# Altium schematic symbol library SensorBoard.SchLib: 20 symbols
Pins are listed as number, name and electrical type; pins without a type are passive.

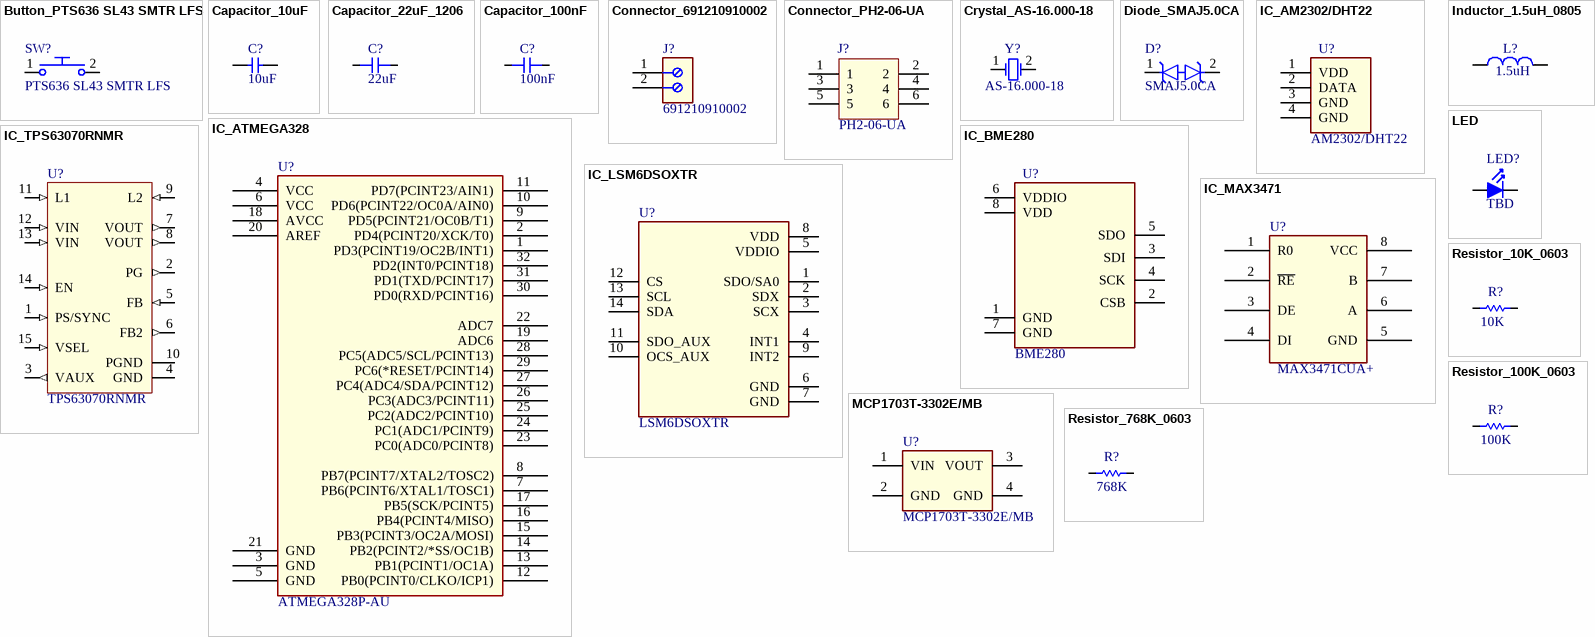
[diagram p0: symbols Button_PTS636 SL43 SMTR LFS to Resistor_768K_0603]

## Button_PTS636 SL43 SMTR LFS
designator SW?, comment PTS636 SL43 SMTR LFS
9.2V Clamp 43.5A Ipp Tvs Diode Surface Mount DO-214AC (SMA); MFR: C&K; Datasheet: https://www.digikey.ro/en/products/detail/c-k/PTS636-SL43-SMTR-LFS/10071722; MFR PN: PTS636 SL43 SMTR LFS; Supplier: Digi Key; Supplier PN: CKN12309-1-ND
footprint SMT Button (Button)
pins: 1, 2

## Capacitor_10uF
designator C?, comment 10uF
CAP CER 10uF 20% 25V X5R 0603; MFR: TDK; MFR PN: C1608X5R1E106M080AC; Supplier: Mouser; Supplier PN: 810-C1608X5R1E106M; Datasheet: https://eu.mouser.com/ProductDetail/TDK/C1608X5R1E106M080AC?qs=dfay7wIA1uGdHfZTkqsICA%3D%3D
footprint CASE0603
pins: 1, 2

## Capacitor_22uF_1206
designator C?, comment 22uF
CAP CER 22uF 20% 35V X7R 1206; MFR: TDK; MFR PN: C3216X5R1V226M160AC; Supplier: Mouser; Supplier PN: 810-C3216X5R1V226M; Datasheet: https://eu.mouser.com/ProductDetail/TDK/C3216X5R1V226M160AC?qs=NRhsANhppD8TwN31eZ1xGQ%3D%3D
footprint CASE1206 (Resistor CASE 1206)
pins: 1, 2

## Capacitor_100nF
designator C?, comment 100nF
CAP CER 100nF 5% 25V X7R 0603; MFR: KEMET; MFR PN: C0603C104J3RAC; Supplier: Mouser; Supplier PN: 80-C0603C104J3RAC; Datasheet: https://eu.mouser.com/ProductDetail/KEMET/C0603C104J3RAC?qs=zlI8QACJnq%252BcGF637t1xBQ%3D%3D
footprint CASE0603
pins: 1, 2

## Connector_691210910002
designator J?, comment 691210910002
TERM BLOCK 2P HORIZON 2.54MM PCB; MFR: Wurth; Datasheet: https://www.digikey.ro/en/products/detail/w%C3%BCrth-elektronik/691210910002/10668428?s=N4IgTCBcDaIGwE4CMYkAZlqxAugXyA; MFR PN: 691210910002; Supplier PN: 732-691210910002-ND; Supplier: Digi Key
footprint 691210910002 (2,54mm - modular - green - Horizontal wire entry - Cage clamp - 0,8mm2 wires - 02p)
pins: 1, 2

## Connector_PH2-06-UA
designator J?, comment PH2-06-UA
Connector Header Through Hole 6 position 0.100" (2.54mm); MFR: Adam Tech; MFR PN: PH2-06-UA; Supplier: Digi Key; Supplier PN: 2057-PH2-06-UA-ND; Datasheet: https://www.digikey.ro/en/products/detail/adam-tech/PH2-06-UA/9830396
footprint Header_2x3_2.54_Male
pins: 1, 2, 3, 4, 5, 6

## Crystal_AS-16.000-18
designator Y?, comment AS-16.000-18
16 MHz ±30ppm Crystal 18pF 40 Ohms HC-49/US; MFR: Raltron Electronics; MFR PN: AS-16.000-18; Datasheet: https://www.digikey.ro/en/products/detail/raltron-electronics/AS-16-000-18/10271769; Supplier PN: 2151-AS-16.000-18-ND; Supplier: Digi Key
footprint HC-49/US (Crystal, Thru-Hole; 2 Leads)
pins: 1 OSC1, 2 OSC2

## Diode_SMAJ5.0CA
designator D?, comment SMAJ5.0CA
9.2V Clamp 43.5A Ipp Tvs Diode Surface Mount DO-214AC (SMA); MFR: Good-Ark Semiconductor; Datasheet: https://www.digikey.ro/en/products/detail/good-ark-semiconductor/SMAJ5-0CA/18649098; MFR PN: SMAJ5.0CA; Supplier: Digi Key; Supplier PN: 4786-SMAJ5.0CACT-ND
footprint SMA (Resistor CASE 1206)
pins: 1, 2

## IC_AM2302/DHT22
designator U?, comment AM2302/DHT22
DIGITAL HUMIDITY, PRESSURE AND TEMPERATURE SENSOR; Datasheet: N/A; MFR: N/A; MFR PN: AM2302/DHT22; Supplier: N/A; Supplier PN: AM2302/DHT22
footprint AM2302_TEMP_HUMID_SENSOR
pins: 1 VDD (power), 2 DATA (power), 3 GND (power), 4 GND (power)

## IC_ATMEGA328
designator U?, comment ATMEGA328P-AU
AVR AVR® ATmega Microcontroller IC 8-Bit 20MHz 32KB (16K x 16) FLASH 32-TQFP (7x7); MFR PN: Microchip; MFR: ATMEGA328P-AU; Supplier: Digi Key; Supplier PN: ATMEGA328P-AU-ND; Datasheet: https://www.digikey.com/en/products/detail/microchip-technology/ATMEGA328P-AU/1832260
footprint TQFP-32 (Footprint not found)
pins: 1 PD3(PCINT19/OC2B/INT1), 2 PD4(PCINT20/XCK/T0), 3 GND, 4 VCC, 5 GND, 6 VCC, 7 PB6(PCINT6/XTAL1/TOSC1), 8 PB7(PCINT7/XTAL2/TOSC2), 9 PD5(PCINT21/OC0B/T1), 10 PD6(PCINT22/OC0A/AIN0), 11 PD7(PCINT23/AIN1), 12 PB0(PCINT0/CLKO/ICP1), 13 PB1(PCINT1/OC1A), 14 PB2(PCINT2/*SS/OC1B), 15 PB3(PCINT3/OC2A/MOSI), 16 PB4(PCINT4/MISO), 17 PB5(SCK/PCINT5), 18 AVCC, 19 ADC6, 20 AREF, 21 GND, 22 ADC7, 23 PC0(ADC0/PCINT8), 24 PC1(ADC1/PCINT9), 25 PC2(ADC2/PCINT10), 26 PC3(ADC3/PCINT11), 27 PC4(ADC4/SDA/PCINT12), 28 PC5(ADC5/SCL/PCINT13), 29 PC6(*RESET/PCINT14), 30 PD0(RXD/PCINT16), 31 PD1(TXD/PCINT17), 32 PD2(INT0/PCINT18)

## IC_BME280
designator U?, comment BME280
DIGITAL HUMIDITY, PRESSURE AND TEMPERATURE SENSOR; MFR: Bosch; Datasheet: https://www.digikey.ro/en/products/detail/bosch-sensortec/BME280/6136306; MFR PN: BME280; Supplier: Digi Key; Supplier PN: 828-1063-1-ND
footprint VFLGA-8 (Sensor)
pins: 1 GND (power), 2 CSB, 3 SDI, 4 SCK, 5 SDO, 6 VDDIO (power), 7 GND (power), 8 VDD (power)

## IC_LSM6DSOXTR
designator U?, comment LSM6DSOXTR
Accelerometer, Gyroscope, 6 Axis Sensor I²C, SPI Output; MFR: STMicroelectronics; Supplier: Digi Key; Supplier PN: 497-18367-1-ND; Datasheet: https://www.digikey.gr/en/products/detail/stmicroelectronics/LSM6DSOXTR/9841882?s=N4IgTCBcDaIDIGUCyA2AIgg8gDQCoCUQBdAXyA; MFR PN: LSM6DSOXTR
footprint VFLGA-14
pins: 1 SDO/SA0, 2 SDX, 3 SCX, 4 INT1, 5 VDDIO, 6 GND, 7 GND, 8 VDD, 9 INT2, 10 OCS_AUX, 11 SDO_AUX, 12 CS, 13 SCL, 14 SDA

## IC_MAX3471
designator U?, comment MAX3471CUA+
IC TRANSCEIVER HALF 1/1 8UMAX; MFR: Analog Devices; Datasheet: https://www.digikey.com/en/products/detail/analog-devices-inc-maxim-integrated/max3471cua/1702211; MFR PN: MAX3471CUA+; Supplier: Digi Key; Supplier PN: MAX3471CUA+-ND
footprint TSSOP-8
pins: 1 R0, 2 ~{RE}, 3 DE, 4 DI, 5 GND, 6 A, 7 B, 8 VCC

## IC_TPS63070RNMR
designator U?, comment TPS63070RNMR
TPS63070RNMR, Buck-Boost Converter, 2V-16V IN, 2.5V-9V @ 2A OUT; MFR: Texas Instruments; MFR PN: TPS63070RNMR; Supplier: Digi Key; Supplier PN: 296-44874-1-ND; Datasheet: https://www.digikey.gr/en/products/detail/texas-instruments/TPS63070RNMR/6175216?s=N4IgTCBcDaICoAUDKA2AzABgOwYEoDkBZXEAXQF8g
footprint VQFN-15
pins: 1 PS/SYNC (in), 2 PG (out), 3 VAUX (out), 4 GND, 5 FB (in), 6 FB2 (out), 7 VOUT (out), 8 VOUT (out), 9 L2 (in), 10 PGND, 11 L1 (in), 12 VIN (in), 13 VIN (in), 14 EN (in), 15 VSEL (in)

## Inductor_1.5uH_0805
designator L?, comment 1.5uH
IND 1.5uH 20% 6A 0805; MFR: Bourns; MFR PN: SDR0805-1R5ML; Supplier: Mouser; Supplier PN: RHC2512FT1K00CT-ND; Datasheet: https://eu.mouser.com/ProductDetail/Bourns/SDR0805-1R5ML?qs=R2jSSvul3fBbNPR0kd7zkg%3D%3D
footprint CASE0805_Inductor
pins: 1, 2

## LED
designator LED?, comment TBD
Typical INFRARED GaAs LED
footprint CASE0603
pins: 1 A, 2 K

## MCP1703T-3302E/MB
designator U?
IC REG LINEAR 3.3V 250MA SOT89-3; MFR: Microchip; MFR PN: MCP1703T-3302E/MB; Supplier: Digi Key; Supplier PN: MCP1703T-3302E/MBCT-ND; Datasheet: https://www.digikey.ro/en/products/detail/microchip-technology/MCP1703T-3302E-MB/1635604
footprint SOT-223-3
pins: 1 VIN, 2 GND, 3 VOUT, 4 GND

## Resistor_10K_0603
designator R?, comment 10K
RES 10K 1% 1/10W 0603; MFR: YAGEO; MFR PN: RC0603FR-0710KL; Supplier: Mouser; Supplier PN: 603-RC0603FR-0710KL; Datasheet: https://eu.mouser.com/ProductDetail/YAGEO/RC0603FR-0710KL?qs=grNVn54RoB%252B3GtjbJj3wJQ%3D%3D
footprint CASE0603
pins: 1, 2

## Resistor_100K_0603
designator R?, comment 100K
RES 100K 1% 1/10W 0603; MFR: Vishay / Dale; MFR PN: CRCW0603100KFKEA; Supplier: Mouser; Supplier PN: 71-CRCW0603-100K-E3; Datasheet: https://eu.mouser.com/ProductDetail/Vishay-Dale/CRCW0603100KFKEA?qs=6dqgS%252BKntICWHMMdIzt5%2FQ%3D%3D
footprint CASE0603
pins: 1, 2

## Resistor_768K_0603
designator R?, comment 768K
RES 768K 1% 1/10W 0603; MFR: YAGEO; MFR PN: RC0603FR-07768KL; Supplier: Mouser; Supplier PN: 603-RC0603FR-07768KL; Datasheet: https://eu.mouser.com/ProductDetail/YAGEO/RC0603FR-07768KL?qs=EiqXWrxQq61lNwazSnvPjA%3D%3D
footprint CASE0603
pins: 1, 2